# EAGLE library part PROTOBOARD-100 (library CougsInSpace)
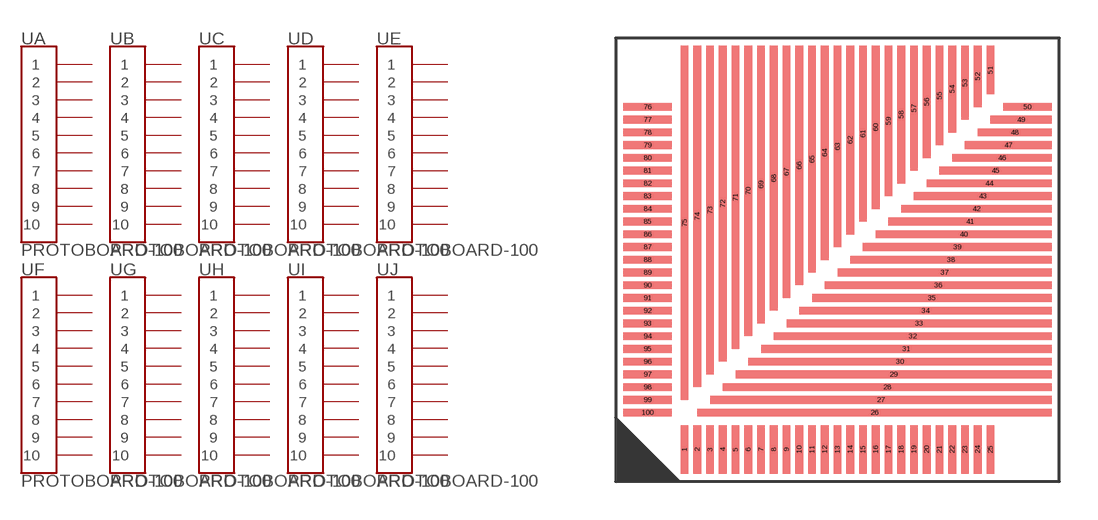
[diagram p39: symbol with the pads of PROTOBOARD-SMD0.5MM; footprint PROTOBOARD-SMD0.5MM]

Designator prefix U; gates A=CONN_10 B=CONN_10 C=CONN_10 D=CONN_10 E=CONN_10 F=CONN_10 G=CONN_10 H=CONN_10 I=CONN_10 J=CONN_10

## PROTOBOARD-100SMD0.5MM  [PROTOBOARD-SMD0.5MM]
1  A:1
2  A:2
3  A:3
4  A:4
5  A:5
6  A:6
7  A:7
8  A:8
9  A:9
10  A:10
11  B:1
12  B:2
13  B:3
14  B:4
15  B:5
16  B:6
17  B:7
18  B:8
19  B:9
20  B:10
21  C:1
22  C:2
23  C:3
24  C:4
25  C:5
26  C:6
27  C:7
28  C:8
29  C:9
30  C:10
31  D:1
32  D:2
33  D:3
34  D:4
35  D:5
36  D:6
37  D:7
38  D:8
39  D:9
40  D:10
41  E:1
42  E:2
43  E:3
44  E:4
45  E:5
46  E:6
47  E:7
48  E:8
49  E:9
50  E:10
51  F:1
52  F:2
53  F:3
54  F:4
55  F:5
56  F:6
57  F:7
58  F:8
59  F:9
60  F:10
61  G:1
62  G:2
63  G:3
64  G:4
65  G:5
66  G:6
67  G:7
68  G:8
69  G:9
70  G:10
71  H:1
72  H:2
73  H:3
74  H:4
75  H:5
76  H:6
77  H:7
78  H:8
79  H:9
80  H:10
81  I:1
82  I:2
83  I:3
84  I:4
85  I:5
86  I:6
87  I:7
88  I:8
89  I:9
90  I:10
91  J:1
92  J:2
93  J:3
94  J:4
95  J:5
96  J:6
97  J:7
98  J:8
99  J:9
100  J:10

## Footprint PROTOBOARD-SMD0.5MM (pad centres in mm)
smd 0.3 x 1.9: 1 -6,-7.45; 2 -5.5,-7.45; 3 -5,-7.45; 4 -4.5,-7.45; 5 -4,-7.45; 6 -3.5,-7.45; 7 -3,-7.45; 8 -2.5,-7.45; 9 -2,-7.45; 10 -1.5,-7.45; 11 -1,-7.45; 12 -0.5,-7.45; 13 0,-7.45; 14 0.5,-7.45; 15 1,-7.45; 16 1.5,-7.45; 17 2,-7.45; 18 2.5,-7.45; 19 3,-7.45; 20 3.5,-7.45; 21 4,-7.45; 22 4.5,-7.45; 23 5,-7.45; 24 5.5,-7.45; 25 6,-7.45; 51 6,7.45
smd 13.9 x 0.3: 26 1.45,-6
smd 13.4 x 0.3: 27 1.7,-5.5
smd 12.9 x 0.3: 28 1.95,-5
smd 12.4 x 0.3: 29 2.2,-4.5
smd 11.9 x 0.3: 30 2.45,-4
smd 11.4 x 0.3: 31 2.7,-3.5
smd 10.9 x 0.3: 32 2.95,-3
smd 10.4 x 0.3: 33 3.2,-2.5
smd 9.9 x 0.3: 34 3.45,-2
smd 9.4 x 0.3: 35 3.7,-1.5
smd 8.9 x 0.3: 36 3.95,-1
smd 8.4 x 0.3: 37 4.2,-0.5
smd 7.9 x 0.3: 38 4.45,0
smd 7.4 x 0.3: 39 4.7,0.5
smd 6.9 x 0.3: 40 4.95,1
smd 6.4 x 0.3: 41 5.2,1.5
smd 5.9 x 0.3: 42 5.45,2
smd 5.4 x 0.3: 43 5.7,2.5
smd 4.9 x 0.3: 44 5.95,3
smd 4.4 x 0.3: 45 6.2,3.5
smd 3.9 x 0.3: 46 6.45,4
smd 3.4 x 0.3: 47 6.7,4.5
smd 2.9 x 0.3: 48 6.95,5
smd 2.4 x 0.3: 49 7.2,5.5
smd 1.9 x 0.3: 50 7.45,6; 76 -7.45,6; 77 -7.45,5.5; 78 -7.45,5; 79 -7.45,4.5; 80 -7.45,4; 81 -7.45,3.5; 82 -7.45,3; 83 -7.45,2.5; 84 -7.45,2; 85 -7.45,1.5; 86 -7.45,1; 87 -7.45,0.5; 88 -7.45,0; 89 -7.45,-0.5; 90 -7.45,-1; 91 -7.45,-1.5; 92 -7.45,-2; 93 -7.45,-2.5; 94 -7.45,-3; 95 -7.45,-3.5; 96 -7.45,-4; 97 -7.45,-4.5; 98 -7.45,-5; 99 -7.45,-5.5; 100 -7.45,-6
smd 0.3 x 2.4: 52 5.5,7.2
smd 0.3 x 2.9: 53 5,6.95
smd 0.3 x 3.4: 54 4.5,6.7
smd 0.3 x 3.9: 55 4,6.45
smd 0.3 x 4.4: 56 3.5,6.2
smd 0.3 x 4.9: 57 3,5.95
smd 0.3 x 5.4: 58 2.5,5.7
smd 0.3 x 5.9: 59 2,5.45
smd 0.3 x 6.4: 60 1.5,5.2
smd 0.3 x 6.9: 61 1,4.95
smd 0.3 x 7.4: 62 0.5,4.7
smd 0.3 x 7.9: 63 0,4.45
smd 0.3 x 8.4: 64 -0.5,4.2
smd 0.3 x 8.9: 65 -1,3.95
smd 0.3 x 9.4: 66 -1.5,3.7
smd 0.3 x 9.9: 67 -2,3.45
smd 0.3 x 10.4: 68 -2.5,3.2
smd 0.3 x 10.9: 69 -3,2.95
smd 0.3 x 11.4: 70 -3.5,2.7
smd 0.3 x 11.9: 71 -4,2.45
smd 0.3 x 12.4: 72 -4.5,2.2
smd 0.3 x 12.9: 73 -5,1.95
smd 0.3 x 13.4: 74 -5.5,1.7
smd 0.3 x 13.9: 75 -6,1.45